# EAGLE library part USHOST (library IBe-9102-lib)
Arduino Diecimila/Duemilanove Make a shield with ease, this package has all the named pins as well as the two mounting drill holes and an outline of the USB and DC power connector. The outline is on the DIMENSION layer, so if your board house uses it they will cut the outline to match. http://www.ladyada.net/library/pcb/eaglelibrary.html
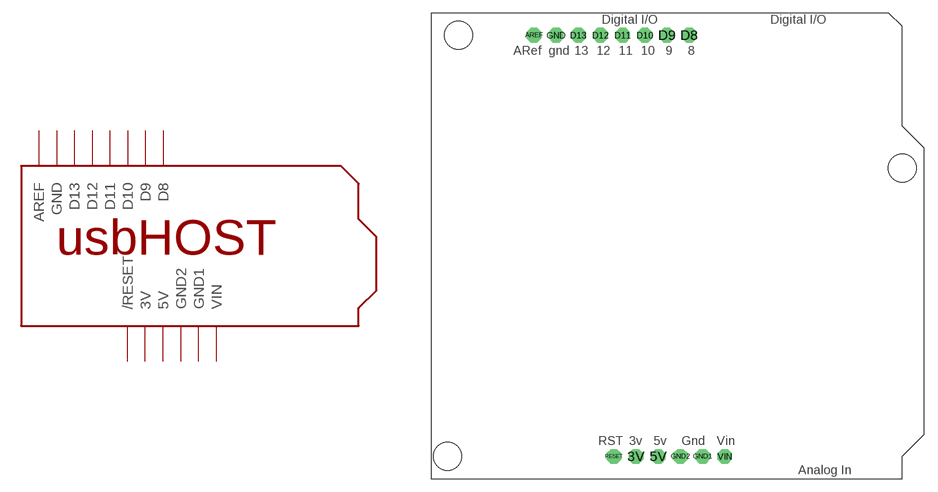
[diagram p0: symbol with the pads of USBHOST; footprint USBHOST]

Designator prefix -

## USHOSTUNO  [USBHOST]
3V  3V  pwr
5V  5V  pwr
AREF  AREF
D8  D8
D9  D9
D10  D10
D11  D11
D12  D12
D13  D13
GND  GND  pwr
GND1  GND1  pwr
GND2  GND2  pwr
RESET  /RESET
VIN  VIN  pwr

## Footprint USBHOST (pad centres in mm)
Arduino Uno Make a shield with ease, this package has all the named pins as well as the two mounting drill holes and an outline of the USB and DC power connector. The outline is on the DIMENSION layer, so if your board house uses it they will cut the outline to match.
drill 1 pad 1.676 octagon: 3V -3.81,-22.86; 5V -1.27,-22.86; AREF -15.494,25.4; D8 2.286,25.4; D9 -0.254,25.4; D10 -2.794,25.4; D11 -5.334,25.4; D12 -7.874,25.4; D13 -10.414,25.4; GND -12.954,25.4; GND1 3.81,-22.86; GND2 1.27,-22.86; RESET -6.35,-22.86; VIN 6.35,-22.86
hole 3.2 at -24.13,25.4
hole 3.2 at 26.67,10.16
hole 3.2 at -25.4,-22.86